# EAGLE library part YY2841AH_QUAD7SEG (library jason_eagle6)
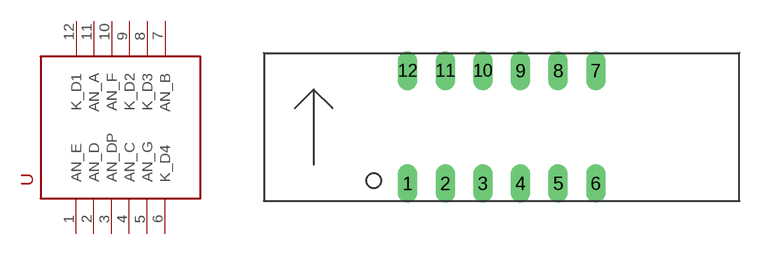
[diagram p15: symbol with the pads of YY2841AH-QUAD7SEG; footprint YY2841AH-QUAD7SEG]

Designator prefix -

## YY2841AH_QUAD7SEG  [YY2841AH-QUAD7SEG]
1  AN_E
2  AN_D
3  AN_DP
4  AN_C
5  AN_G
6  K_D4
7  AN_B
8  K_D3
9  K_D2
10  AN_F
11  AN_A
12  K_D1

## Footprint YY2841AH-QUAD7SEG (pad centres in mm)
drill 0.8 long: 1 -6.35,-3.81; 2 -3.81,-3.81; 3 -1.27,-3.81; 4 1.27,-3.81; 5 3.81,-3.81; 6 6.35,-3.81; 7 6.35,3.81; 8 3.81,3.81; 9 1.27,3.81; 10 -1.27,3.81; 11 -3.81,3.81; 12 -6.35,3.81